# Altium footprint library MAYAW27600B.PcbLib: 1 footprints
Each footprint in its own frame and in the unit in brackets; x right, y up, seen from the top. Pads: shape width x height; smd on the part's side, far side on the other; paste and mask are expansions set on the pad; w line width, h text height; cw(c..) or ccw(c..) is an arc to the next point about the centre after c.
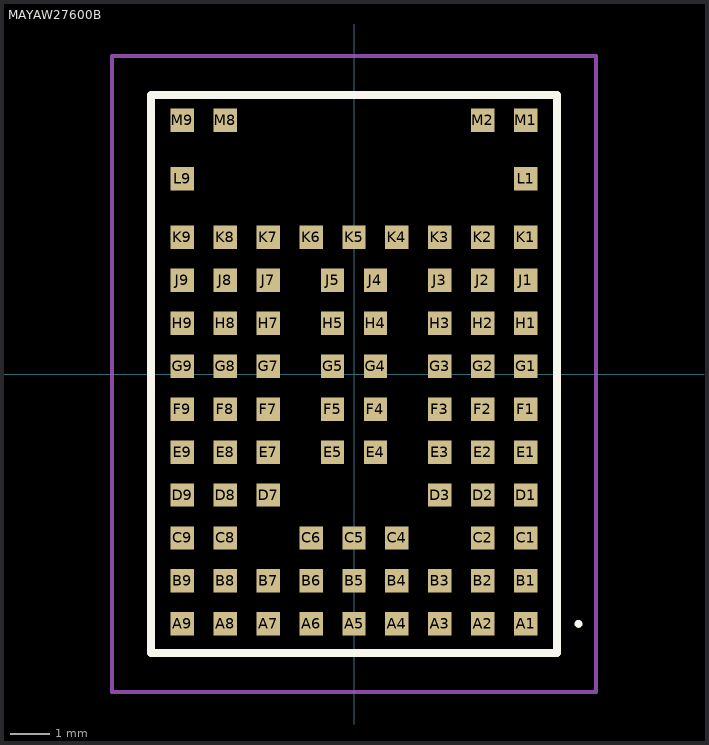
[diagram p0: the footprint, top view; thin cyan lines are the x and y axes]

## MAYAW27600B [mm]
pads (86):
  rect 0.6x0.6 smd: A1(4.4,-6.4) A2(3.3,-6.4) A3(2.2,-6.4) A4(1.1,-6.4) A5(0,-6.4) A6(-1.1,-6.4) A7(-2.2,-6.4) A8(-3.3,-6.4) A9(-4.4,-6.4) B1(4.4,-5.3) B2(3.3,-5.3) B3(2.2,-5.3) B4(1.1,-5.3) B5(0,-5.3) B6(-1.1,-5.3) B7(-2.2,-5.3) B8(-3.3,-5.3) B9(-4.4,-5.3) C1(4.4,-4.2) C2(3.3,-4.2) C4(1.1,-4.2) C5(0,-4.2) C6(-1.1,-4.2) C8(-3.3,-4.2) C9(-4.4,-4.2) D1(4.4,-3.1) D2(3.3,-3.1) D3(2.2,-3.1) D7(-2.2,-3.1) D8(-3.3,-3.1) D9(-4.4,-3.1) E1(4.4,-2) E2(3.3,-2) E3(2.2,-2) E4(0.55,-2) E5(-0.55,-2) E7(-2.2,-2) E8(-3.3,-2) E9(-4.4,-2) F1(4.4,-0.9) F2(3.3,-0.9) F3(2.2,-0.9) F4(0.55,-0.9) F5(-0.55,-0.9) F7(-2.2,-0.9) F8(-3.3,-0.9) F9(-4.4,-0.9) G1(4.4,0.2) G2(3.3,0.2) G3(2.2,0.2) G4(0.55,0.2) G5(-0.55,0.2) G7(-2.2,0.2) G8(-3.3,0.2) G9(-4.4,0.2) H1(4.4,1.3) H2(3.3,1.3) H3(2.2,1.3) H4(0.55,1.3) H5(-0.55,1.3) H7(-2.2,1.3) H8(-3.3,1.3) H9(-4.4,1.3) J1(4.4,2.4) J2(3.3,2.4) J3(2.2,2.4) J4(0.55,2.4) J5(-0.55,2.4) J7(-2.2,2.4) J8(-3.3,2.4) J9(-4.4,2.4) K1(4.4,3.5) K2(3.3,3.5) K3(2.2,3.5) K4(1.1,3.5) K5(0,3.5) K6(-1.1,3.5) K7(-2.2,3.5) K8(-3.3,3.5) K9(-4.4,3.5) L1(4.4,5) L9(-4.4,5) M1(4.4,6.5) M2(3.3,6.5) M8(-3.3,6.5) M9(-4.4,6.5)
Top Overlay:
  lines w0.1: 5.7,-6.4 cw(c5.75,-6.4) 5.8,-6.4 ; 5.7,-6.4 5.7,-6.4 ; 5.7,-6.4 ccw(c5.75,-6.4) 5.8,-6.4 ; 5.8,-6.4 5.8,-6.4
  lines w0.2: -5.2,-7.15 5.2,-7.15 5.2,7.15 -5.2,7.15 -5.2,-7.15
Mechanical 15:
  lines w0.1: -5.2,-7.15 5.2,-7.15 5.2,7.15 -5.2,7.15 -5.2,-7.15
Mechanical 20:
  lines w0.1: -6.2,-8.15 6.2,-8.15 6.2,8.15 -6.2,8.15 -6.2,-8.15